# Altium schematic symbol library IC.SchLib: 7 symbols
Pins are listed as number, name and electrical type; pins without a type are passive.

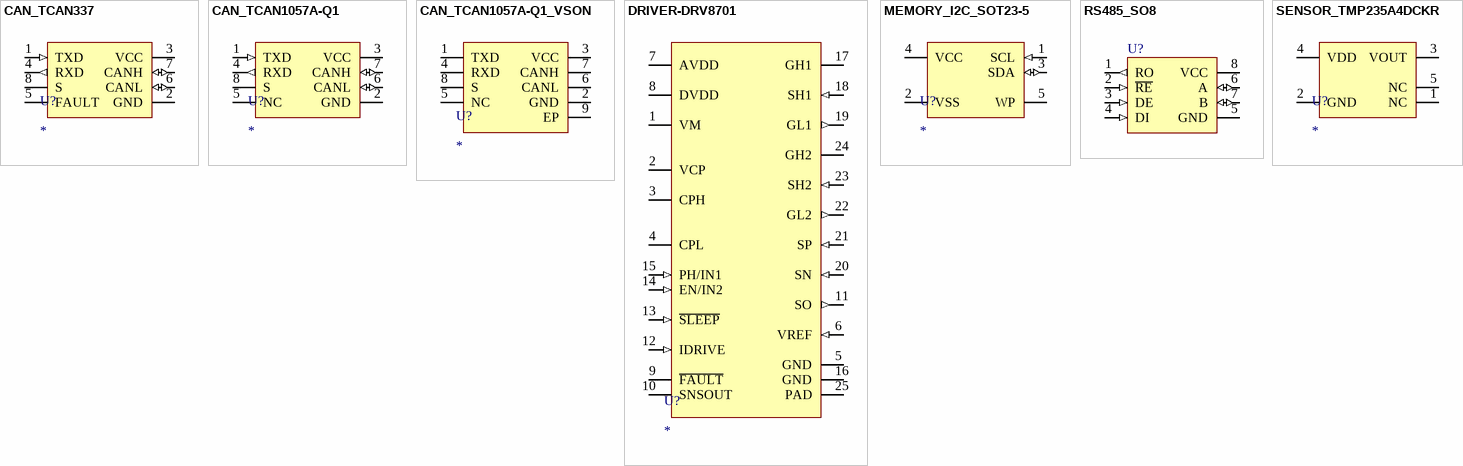
[diagram p0: symbols CAN_TCAN337 to SENSOR_TMP235A4DCKR]

## CAN_TCAN337
designator U?
CAN transceiver with silent and FAULT
pins: 1 TXD (in), 2 GND, 3 VCC, 4 RXD (out), 5 FAULT, 6 CANL (io), 7 CANH (io), 8 S

## CAN_TCAN1057A-Q1
designator U?
CAN transceiver with silent
pins: 1 TXD (in), 2 GND, 3 VCC, 4 RXD (out), 5 NC, 6 CANL (io), 7 CANH (io), 8 S

## CAN_TCAN1057A-Q1_VSON
designator U?
CAN transceiver
pins: 1 TXD, 2 GND, 3 VCC, 4 RXD, 5 NC, 6 CANL, 7 CANH, 8 S, 9 EP

## DRIVER-DRV8701
designator U?
45-V, H-bridge smart gate driver 24-VQFN -40 to 125
pins: 1 VM, 2 VCP, 3 CPH, 4 CPL, 5 GND, 6 VREF (in), 7 AVDD, 8 DVDD, 9 ~{FAULT}, 10 SNSOUT, 11 SO (out), 12 IDRIVE (in), 13 ~{SLEEP} (in), 14 EN/IN2 (in), 15 PH/IN1 (in), 16 GND, 17 GH1, 18 SH1 (in), 19 GL1 (out), 20 SN (in), 21 SP (in), 22 GL2 (out), 23 SH2 (in), 24 GH2, 25 PAD

## MEMORY_I2C_SOT23-5
designator U?
pins: 1 SCL (in), 2 VSS, 3 SDA (io), 4 VCC, 5 WP

## RS485_SO8
designator U?
pins: 1 RO (out), 2 ~{RE} (in), 3 DE (in), 4 DI (in), 5 GND (power), 6 A (io), 7 B (io), 8 VCC (power)

## SENSOR_TMP235A4DCKR
designator U?
pins: 1 NC, 2 GND, 3 VOUT, 4 VDD, 5 NC